# Altium integrated library TI_Logic_Specialty_Logic.IntLib: 2504 symbols (part 4 of 81)
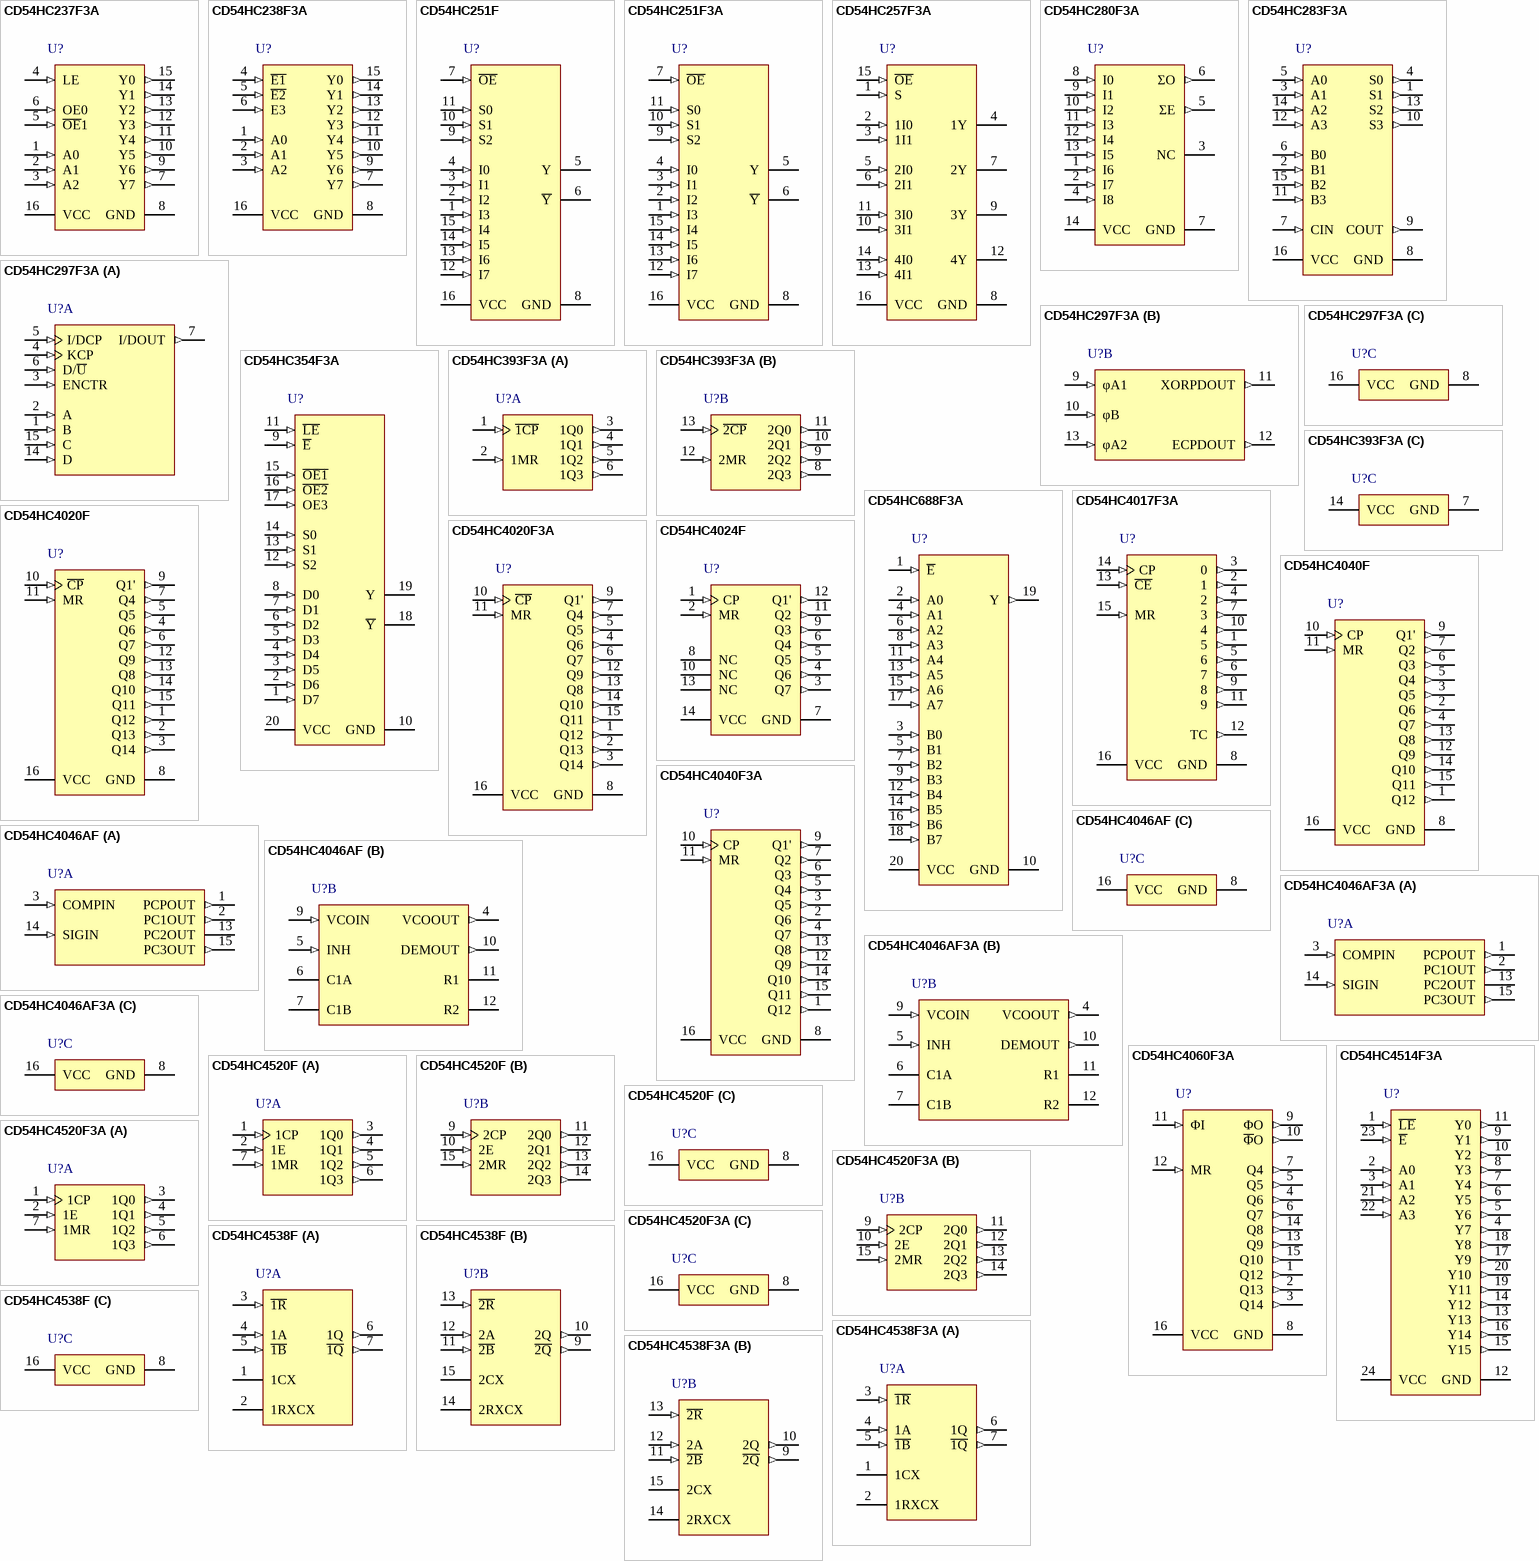
[diagram p107: symbols CD54HC237F3A to CD54HC4538F3A]

## CD54HC297F3A
designator U?
High Speed CMOS Logic Digital Phase-Locked-Loop, J0016A, TUBE; Generic Part Number: CD54HC297; Manufacturer: Texas Instruments; PartNumber: CD54HC297F3A; VCC(Min)(V): 2; VCC(Max)(V): 6; ICC @ Nom Voltage(Max)(mA): 0.08; Rating: Military; Technology Family: HC; Output Drive (IOL/IOH)(Max)(mA): 5.2/-7.8; tpd @ Nom Voltage(Max)(ns): 43; DatasheetVersion: SCHS177B; PackageReference: J0016A; Output Type: CMOS; Input Type: CMOS; Operating Temperature Range(C): -55 to 125; ComponentLink1Description: Manufacturer URL; ComponentLink1URL: http://www.ti.com/; ComponentLink2Description: Datasheet; ComponentLink2URL: http://www.ti.com/lit/ds/symlink/cd54hc297.pdf
footprint J0016A (DIP, 16-Leads, Body 21.35x7.2mm, Pitch 2.54mm)
part A pins: 1 B (in), 2 A (in), 3 ENCTR (in), 4 KCP (in), 5 I/DCP (in), 6 D/~{U} (in), 7 I/DOUT (out), 14 D (in), 15 C (in)
part B pins: 9 φA1 (in), 10 φB (in), 11 XORPDOUT (out), 12 ECPDOUT (out), 13 φA2 (in)
part C pins: 8 GND (power), 16 VCC (power)

## CD54HC354F3A
designator U?
High Speed CMOS Logic 8-Input Multiplexer/Register with 3-State Outputs, J0020A, TUBE; Generic Part Number: CD54HC354; Manufacturer: Texas Instruments; PartNumber: CD54HC354F3A; Rating: Military; Technology Family: HC; Schmitt Trigger: No; DatasheetVersion: SCHS277D; PackageReference: J0020A; Operating Temperature Range(C): -55 to 125; ComponentLink1Description: Manufacturer URL; ComponentLink1URL: http://www.ti.com/; ComponentLink2Description: Datasheet; ComponentLink2URL: http://www.ti.com/lit/ds/symlink/cd54hc354.pdf; ComponentLink3Description: Package Specification; ComponentLink3URL: http://www.ti.com/lit/ml/mcer002d/mcer002d.pdf
footprint J0020A (DIP, 20-Leads, Body 26.9x7.2mm, Pitch 2.54mm)
pins: 1 D7 (in), 2 D6 (in), 3 D5 (in), 4 D4 (in), 5 D3 (in), 6 D2 (in), 7 D1 (in), 8 D0 (in), 9 ~{E} (in), 10 GND (power), 11 ~{LE} (in), 12 S2 (in), 13 S1 (in), 14 S0 (in), 15 ~{OE1} (in), 16 ~{OE2} (in), 17 OE3 (in), 18 ~{Y} (hiz), 19 Y (hiz), 20 VCC (power)

## CD54HC393F3A
designator U?
High Speed CMOS Logic Dual 4-Stage Binary Counter, J0014A, TUBE; Generic Part Number: CD54HC393; Manufacturer: Texas Instruments; PartNumber: CD54HC393F3A; VCC(Min)(V): 2; VCC(Max)(V): 6; Inputs: 1; ICC @ Nom Voltage(Max)(mA): 0.08; Bits(#): 4; F @ Nom Voltage(Max)(Mhz): 28; Rating: Military; Technology Family: HC; Output Drive (IOL/IOH)(Max)(mA): 5.2/-5.2; tpd @ Nom Voltage(Max)(ns): 60; DatasheetVersion: SCHS186E; PackageReference: J0014A; Function: Counter; Operating Temperature Range(C): -55 to 125; Type: Binary; ComponentLink1Description: Manufacturer URL; ComponentLink1URL: http://www.ti.com/; ComponentLink2Description: Datasheet; ComponentLink2URL: http://www.ti.com/lit/ds/symlink/cd54hc393.pdf; ComponentLink3Description: Package Specification; ComponentLink3URL: http://www.ti.com/lit/ml/mcer002d/mcer002d.pdf
footprint J0014A (DIP, 14-Leads, Body 19.95x7.2mm, Pitch 2.54mm)
part A pins: 1 ~{1CP} (in), 2 1MR (in), 3 1Q0 (out), 4 1Q1 (out), 5 1Q2 (out), 6 1Q3 (out)
part B pins: 8 2Q3 (out), 9 2Q2 (out), 10 2Q1 (out), 11 2Q0 (out), 12 2MR (in), 13 ~{2CP} (in)
part C pins: 7 GND (power), 14 VCC (power)

## CD54HC688F3A
designator U?
8-Bit Identity/Magnitude Comparators (P=Q) with Enable, J0020A, TUBE; Generic Part Number: CD54HC688; Manufacturer: Texas Instruments; PartNumber: CD54HC688F3A; VCC(Min)(V): 2; VCC(Max)(V): 6; Output Type: CMOS; ICC @ Nom Voltage(Max)(mA): 0.08; Bits(#): 8; Rating: Military; Technology Family: HC; Output Drive (IOL/IOH)(Max)(mA): 5.2/-5.2; tpd @ Nom Voltage(Max)(ns): 36; DatasheetVersion: SCHS196C; PackageReference: J0020A; Input Type: CMOS; Operating Temperature Range(C): -55 to 125; ComponentLink1Description: Manufacturer URL; ComponentLink1URL: http://www.ti.com/; ComponentLink2Description: Datasheet; ComponentLink2URL: http://www.ti.com/lit/ds/symlink/cd54hc688.pdf
footprint J0020A (DIP, 20-Leads, Body 26.9x7.2mm, Pitch 2.54mm)
pins: 1 ~{E} (in), 2 A0 (in), 3 B0 (in), 4 A1 (in), 5 B1 (in), 6 A2 (in), 7 B2 (in), 8 A3 (in), 9 B3 (in), 10 GND (power), 11 A4 (in), 12 B4 (in), 13 A5 (in), 14 B5 (in), 15 A6 (in), 16 B6 (in), 17 A7 (in), 18 B7 (in), 19 Y (out), 20 VCC (power)

## CD54HC4017F3A
designator U?
High Speed CMOS Logic Decade Counter/Divider with 10 Decoded Outputs, J0016A, TUBE; Generic Part Number: CD54HC4017; Manufacturer: Texas Instruments; PartNumber: CD54HC4017F3A; VCC(Min)(V): 2; VCC(Max)(V): 6; Inputs: 1; ICC @ Nom Voltage(Max)(mA): 0.08; Bits(#): 10; F @ Nom Voltage(Max)(Mhz): 28; Rating: Military; Technology Family: HC; Output Drive (IOL/IOH)(Max)(mA): 5.2/-5.2; tpd @ Nom Voltage(Max)(ns): 54; DatasheetVersion: SGDS011; PackageReference: J0016A; Function: Counter; Operating Temperature Range(C): -55 to 125; Type: Decade; ComponentLink1Description: Manufacturer URL; ComponentLink1URL: http://www.ti.com/; ComponentLink2Description: Datasheet; ComponentLink2URL: http://www.ti.com/lit/ds/symlink/cd54hc4017.pdf; ComponentLink3Description: Package Specification; ComponentLink3URL: http://www.ti.com/lit/ml/mcer002d/mcer002d.pdf
footprint J0016A (DIP, 16-Leads, Body 21.35x7.2mm, Pitch 2.54mm)
pins: 1 5 (out), 2 1 (out), 3 0 (out), 4 2 (out), 5 6 (out), 6 7 (out), 7 3 (out), 8 GND (power), 9 8 (out), 10 4 (out), 11 9 (out), 12 TC (out), 13 ~{CE} (in), 14 CP (in), 15 MR (in), 16 VCC (power)

## CD54HC4020F
designator U?
High Speed CMOS Logic 14-Stage Binary Counter, J0016A, TUBE; Generic Part Number: CD54HC4020; Manufacturer: Texas Instruments; PartNumber: CD54HC4020F; VCC(Min)(V): 2; VCC(Max)(V): 6; Inputs: 1; ICC @ Nom Voltage(Max)(mA): 0.08; Bits(#): 14; F @ Nom Voltage(Max)(Mhz): 28; Rating: Military; Technology Family: HC; Output Drive (IOL/IOH)(Max)(mA): 5.2/-5.2; tpd @ Nom Voltage(Max)(ns): 30; DatasheetVersion: SCHS201C; PackageReference: J0016A; Function: Counter; Operating Temperature Range(C): -55 to 125; Type: Binary; ComponentLink1Description: Manufacturer URL; ComponentLink1URL: http://www.ti.com/; ComponentLink2Description: Datasheet; ComponentLink2URL: http://www.ti.com/lit/ds/symlink/cd54hc4020.pdf; ComponentLink3Description: Package Specification; ComponentLink3URL: http://www.ti.com/lit/ml/mcer002d/mcer002d.pdf
footprint J0016A (DIP, 16-Leads, Body 21.35x7.2mm, Pitch 2.54mm)
pins: 1 Q12 (out), 2 Q13 (out), 3 Q14 (out), 4 Q6 (out), 5 Q5 (out), 6 Q7 (out), 7 Q4 (out), 8 GND (power), 9 Q1' (out), 10 ~{CP} (in), 11 MR (in), 12 Q9 (out), 13 Q8 (out), 14 Q10 (out), 15 Q11 (out), 16 VCC (power)

## CD54HC4020F3A
designator U?
High Speed CMOS Logic 14-Stage Binary Counter, J0016A, TUBE; Generic Part Number: CD54HC4020; Manufacturer: Texas Instruments; PartNumber: CD54HC4020F3A; VCC(Min)(V): 2; VCC(Max)(V): 6; Inputs: 1; ICC @ Nom Voltage(Max)(mA): 0.08; Bits(#): 14; F @ Nom Voltage(Max)(Mhz): 28; Rating: Military; Technology Family: HC; Output Drive (IOL/IOH)(Max)(mA): 5.2/-5.2; tpd @ Nom Voltage(Max)(ns): 30; DatasheetVersion: SCHS201C; PackageReference: J0016A; Function: Counter; Operating Temperature Range(C): -55 to 125; Type: Binary; ComponentLink1Description: Manufacturer URL; ComponentLink1URL: http://www.ti.com/; ComponentLink2Description: Datasheet; ComponentLink2URL: http://www.ti.com/lit/ds/symlink/cd54hc4020.pdf; ComponentLink3Description: Package Specification; ComponentLink3URL: http://www.ti.com/lit/ml/mcer002d/mcer002d.pdf
footprint J0016A (DIP, 16-Leads, Body 21.35x7.2mm, Pitch 2.54mm)
pins: 1 Q12 (out), 2 Q13 (out), 3 Q14 (out), 4 Q6 (out), 5 Q5 (out), 6 Q7 (out), 7 Q4 (out), 8 GND (power), 9 Q1' (out), 10 ~{CP} (in), 11 MR (in), 12 Q9 (out), 13 Q8 (out), 14 Q10 (out), 15 Q11 (out), 16 VCC (power)

## CD54HC4024F
designator U?
High Speed CMOS Logic 7-Stage Binary Ripple Counter, J0014A, TUBE; Generic Part Number: CD54HC4024; Manufacturer: Texas Instruments; PartNumber: CD54HC4024F; VCC(Min)(V): 2; VCC(Max)(V): 6; Inputs: 1; ICC @ Nom Voltage(Max)(mA): 0.08; Bits(#): 7; F @ Nom Voltage(Max)(Mhz): 28; Rating: Military; Technology Family: HC; Output Drive (IOL/IOH)(Max)(mA): 5.2/-5.2; tpd @ Nom Voltage(Max)(ns): 30; DatasheetVersion: SCHS202C; PackageReference: J0014A; Function: Counter; Operating Temperature Range(C): -55 to 125; Type: Binary; ComponentLink1Description: Manufacturer URL; ComponentLink1URL: http://www.ti.com/; ComponentLink2Description: Datasheet; ComponentLink2URL: http://www.ti.com/lit/ds/symlink/cd54hc4024.pdf; ComponentLink3Description: Package Specification; ComponentLink3URL: http://www.ti.com/lit/ml/mcer002d/mcer002d.pdf
footprint J0014A (DIP, 14-Leads, Body 19.95x7.2mm, Pitch 2.54mm)
pins: 1 CP (in), 2 MR (in), 3 Q7 (out), 4 Q6 (out), 5 Q5 (out), 6 Q4 (out), 7 GND (power), 8 NC, 9 Q3 (out), 10 NC, 11 Q2 (out), 12 Q1' (out), 13 NC, 14 VCC (power)

## CD54HC4040F
designator U?
High Speed CMOS Logic 12-Stage Binary Counter, J0016A, TUBE; Generic Part Number: CD54HC4040; Manufacturer: Texas Instruments; PartNumber: CD54HC4040F; VCC(Min)(V): 2; VCC(Max)(V): 6; Inputs: 1; ICC @ Nom Voltage(Max)(mA): 0.08; Bits(#): 12; F @ Nom Voltage(Max)(Mhz): 28; Rating: Military; Technology Family: HC; Output Drive (IOL/IOH)(Max)(mA): 5.2/-5.2; tpd @ Nom Voltage(Max)(ns): 30; DatasheetVersion: SCHS203D; PackageReference: J0016A; Function: Counter; Operating Temperature Range(C): -55 to 125; Type: Binary; ComponentLink1Description: Manufacturer URL; ComponentLink1URL: http://www.ti.com/; ComponentLink2Description: Datasheet; ComponentLink2URL: http://www.ti.com/lit/ds/symlink/cd54hc4040.pdf; ComponentLink3Description: Package Specification; ComponentLink3URL: http://www.ti.com/lit/ml/mcer002d/mcer002d.pdf
footprint J0016A (DIP, 16-Leads, Body 21.35x7.2mm, Pitch 2.54mm)
pins: 1 Q12 (out), 2 Q6 (out), 3 Q5 (out), 4 Q7 (out), 5 Q4 (out), 6 Q3 (out), 7 Q2 (out), 8 GND (power), 9 Q1' (out), 10 CP (in), 11 MR (in), 12 Q9 (out), 13 Q8 (out), 14 Q10 (out), 15 Q11 (out), 16 VCC (power)

## CD54HC4040F3A
designator U?
High Speed CMOS Logic 12-Stage Binary Counter, J0016A, TUBE; Generic Part Number: CD54HC4040; Manufacturer: Texas Instruments; PartNumber: CD54HC4040F3A; VCC(Min)(V): 2; VCC(Max)(V): 6; Inputs: 1; ICC @ Nom Voltage(Max)(mA): 0.08; Bits(#): 12; F @ Nom Voltage(Max)(Mhz): 28; Rating: Military; Technology Family: HC; Output Drive (IOL/IOH)(Max)(mA): 5.2/-5.2; tpd @ Nom Voltage(Max)(ns): 30; DatasheetVersion: SCHS203D; PackageReference: J0016A; Function: Counter; Operating Temperature Range(C): -55 to 125; Type: Binary; ComponentLink1Description: Manufacturer URL; ComponentLink1URL: http://www.ti.com/; ComponentLink2Description: Datasheet; ComponentLink2URL: http://www.ti.com/lit/ds/symlink/cd54hc4040.pdf; ComponentLink3Description: Package Specification; ComponentLink3URL: http://www.ti.com/lit/ml/mcer002d/mcer002d.pdf
footprint J0016A (DIP, 16-Leads, Body 21.35x7.2mm, Pitch 2.54mm)
pins: 1 Q12 (out), 2 Q6 (out), 3 Q5 (out), 4 Q7 (out), 5 Q4 (out), 6 Q3 (out), 7 Q2 (out), 8 GND (power), 9 Q1' (out), 10 CP (in), 11 MR (in), 12 Q9 (out), 13 Q8 (out), 14 Q10 (out), 15 Q11 (out), 16 VCC (power)

## CD54HC4046AF
designator U?
High Speed CMOS Logic Phase-Locked-Loop with VCO, J0016A, TUBE; Generic Part Number: CD54HC4046A; Manufacturer: Texas Instruments; PartNumber: CD54HC4046AF; VCC(Min)(V): 2; VCC(Max)(V): 6; ICC @ Nom Voltage(Max)(mA): 0.08; Rating: Military; Technology Family: HC; Output Drive (IOL/IOH)(Max)(mA): 5.2/-5.2; tpd @ Nom Voltage(Max)(ns): 64; DatasheetVersion: SCHS204J; PackageReference: J0016A; Output Type: CMOS; Input Type: CMOS; Operating Temperature Range(C): -55 to 125; ComponentLink1Description: Manufacturer URL; ComponentLink1URL: http://www.ti.com/; ComponentLink2Description: Datasheet; ComponentLink2URL: http://www.ti.com/lit/ds/symlink/cd54hc4046a.pdf
footprint J0016A (DIP, 16-Leads, Body 21.35x7.2mm, Pitch 2.54mm)
part A pins: 1 PCPOUT (out) "Phase comparator pulse output", 2 PC1OUT (out) "Phase comparator 1 output", 3 COMPIN (in) "Comparator input", 13 PC2OUT (hiz) "Phase comparator 2 output", 14 SIGIN (in) "Signal input", 15 PC3OUT (out) "Phase comparator 3 output"
part B pins: 4 VCOOUT (out) "VCO output", 5 INH (in) "Inhibit input", 6 C1A "Capacitor C1 connection A", 7 C1B "Capacitor C1 connection B", 9 VCOIN (in) "VCO input", 10 DEMOUT (out) "Demodulator output", 11 R1 "Resistor R1 connection", 12 R2 "Resistor R2 connection"
part C pins: 8 GND (power) "Ground (0 V)", 16 VCC (power) "Positive supply voltage"

## CD54HC4046AF3A
designator U?
High Speed CMOS Logic Phase-Locked-Loop with VCO, J0016A, TUBE; Generic Part Number: CD54HC4046A; Manufacturer: Texas Instruments; PartNumber: CD54HC4046AF3A; VCC(Min)(V): 2; VCC(Max)(V): 6; ICC @ Nom Voltage(Max)(mA): 0.08; Rating: Military; Technology Family: HC; Output Drive (IOL/IOH)(Max)(mA): 5.2/-5.2; tpd @ Nom Voltage(Max)(ns): 64; DatasheetVersion: SCHS204J; PackageReference: J0016A; Output Type: CMOS; Input Type: CMOS; Operating Temperature Range(C): -55 to 125; ComponentLink1Description: Manufacturer URL; ComponentLink1URL: http://www.ti.com/; ComponentLink2Description: Datasheet; ComponentLink2URL: http://www.ti.com/lit/ds/symlink/cd54hc4046a.pdf
footprint J0016A (DIP, 16-Leads, Body 21.35x7.2mm, Pitch 2.54mm)
part A pins: 1 PCPOUT (out) "Phase comparator pulse output", 2 PC1OUT (out) "Phase comparator 1 output", 3 COMPIN (in) "Comparator input", 13 PC2OUT (hiz) "Phase comparator 2 output", 14 SIGIN (in) "Signal input", 15 PC3OUT (out) "Phase comparator 3 output"
part B pins: 4 VCOOUT (out) "VCO output", 5 INH (in) "Inhibit input", 6 C1A "Capacitor C1 connection A", 7 C1B "Capacitor C1 connection B", 9 VCOIN (in) "VCO input", 10 DEMOUT (out) "Demodulator output", 11 R1 "Resistor R1 connection", 12 R2 "Resistor R2 connection"
part C pins: 8 GND (power) "Ground (0 V)", 16 VCC (power) "Positive supply voltage"

## CD54HC4060F3A
designator U?
High Speed CMOS Logic 14-Stage Binary Counter with Oscillator, J0016A, TUBE; Generic Part Number: CD54HC4060; Manufacturer: Texas Instruments; PartNumber: CD54HC4060F3A; VCC(Min)(V): 2; VCC(Max)(V): 6; Inputs: 1; ICC @ Nom Voltage(Max)(mA): 0.08; Bits(#): 14; F @ Nom Voltage(Max)(Mhz): 28; Rating: Military; Technology Family: HC; Output Drive (IOL/IOH)(Max)(mA): 5.2/-5.2; tpd @ Nom Voltage(Max)(ns): 64; DatasheetVersion: SCHS207G; PackageReference: J0016A; Function: Counter; Operating Temperature Range(C): -55 to 125; Type: Binary; ComponentLink1Description: Manufacturer URL; ComponentLink1URL: http://www.ti.com/; ComponentLink2Description: Datasheet; ComponentLink2URL: http://www.ti.com/lit/ds/symlink/cd54hc4060.pdf; ComponentLink3Description: Package Specification; ComponentLink3URL: http://www.ti.com/lit/ml/mcer002d/mcer002d.pdf
footprint J0016A (DIP, 16-Leads, Body 21.35x7.2mm, Pitch 2.54mm)
pins: 1 Q12 (out), 2 Q13 (out), 3 Q14 (out), 4 Q6 (out), 5 Q5 (out), 6 Q7 (out), 7 Q4 (out), 8 GND (power), 9 ΦO (out), 10 ~{Φ}O (out), 11 ΦI (in), 12 MR (in), 13 Q9 (out), 14 Q8 (out), 15 Q10 (out), 16 VCC (power)

## CD54HC4514F3A
designator U?
High Speed CMOS Logic 4-to-16 Line Decoder/Demultiplexer with Input Latches, J0024A, TUBE; Generic Part Number: CD54HC4514; Manufacturer: Texas Instruments; PartNumber: CD54HC4514F3A; Rating: Military; Technology Family: HC; Schmitt Trigger: No; DatasheetVersion: SCHS280C; PackageReference: J0024A; Operating Temperature Range(C): -55 to 125; ComponentLink1Description: Manufacturer URL; ComponentLink1URL: http://www.ti.com/; ComponentLink2Description: Datasheet; ComponentLink2URL: http://www.ti.com/lit/ds/symlink/cd54hc4514.pdf; ComponentLink3Description: Package Specification; ComponentLink3URL: http://www.ti.com/lit/ml/mcer002d/mcer002d.pdf
footprint J0024A (DIP, 24-Leads, Body 32.15x14.85mm, Pitch 2.54mm)
pins: 1 ~{LE} (in), 2 A0 (in), 3 A1 (in), 4 Y7 (out), 5 Y6 (out), 6 Y5 (out), 7 Y4 (out), 8 Y3 (out), 9 Y1 (out), 10 Y2 (out), 11 Y0 (out), 12 GND (power), 13 Y13 (out), 14 Y12 (out), 15 Y15 (out), 16 Y14 (out), 17 Y9 (out), 18 Y8 (out), 19 Y11 (out), 20 Y10 (out), 21 A2 (in), 22 A3 (in), 23 ~{E} (in), 24 VCC (power)

## CD54HC4520F
designator U?
High Speed CMOS Logic Dual Binary Up-Counter, J0016A, TUBE; Generic Part Number: CD54HC4520; Manufacturer: Texas Instruments; PartNumber: CD54HC4520F; VCC(Min)(V): 2; VCC(Max)(V): 6; Inputs: 1; ICC @ Nom Voltage(Max)(mA): 0.08; Bits(#): 4; F @ Nom Voltage(Max)(Mhz): 28; Rating: Military; Technology Family: HC; Output Drive (IOL/IOH)(Max)(mA): 5.2/-5.2; tpd @ Nom Voltage(Max)(ns): 51; DatasheetVersion: SCHS216D; PackageReference: J0016A; Function: Counter; Operating Temperature Range(C): -55 to 125; Type: Binary; ComponentLink1Description: Manufacturer URL; ComponentLink1URL: http://www.ti.com/; ComponentLink2Description: Datasheet; ComponentLink2URL: http://www.ti.com/lit/ds/symlink/cd54hc4520.pdf; ComponentLink3Description: Package Specification; ComponentLink3URL: http://www.ti.com/lit/ml/mcer002d/mcer002d.pdf
footprint J0016A (DIP, 16-Leads, Body 21.35x7.2mm, Pitch 2.54mm)
part A pins: 1 1CP (in), 2 1E (in), 3 1Q0 (out), 4 1Q1 (out), 5 1Q2 (out), 6 1Q3 (out), 7 1MR (in)
part B pins: 9 2CP (in), 10 2E (in), 11 2Q0 (out), 12 2Q1 (out), 13 2Q2 (out), 14 2Q3 (out), 15 2MR (in)
part C pins: 8 GND (power), 16 VCC (power)

## CD54HC4520F3A
designator U?
High Speed CMOS Logic Dual Binary Up-Counter, J0016A, TUBE; Generic Part Number: CD54HC4520; Manufacturer: Texas Instruments; PartNumber: CD54HC4520F3A; VCC(Min)(V): 2; VCC(Max)(V): 6; Inputs: 1; ICC @ Nom Voltage(Max)(mA): 0.08; Bits(#): 4; F @ Nom Voltage(Max)(Mhz): 28; Rating: Military; Technology Family: HC; Output Drive (IOL/IOH)(Max)(mA): 5.2/-5.2; tpd @ Nom Voltage(Max)(ns): 51; DatasheetVersion: SCHS216D; PackageReference: J0016A; Function: Counter; Operating Temperature Range(C): -55 to 125; Type: Binary; ComponentLink1Description: Manufacturer URL; ComponentLink1URL: http://www.ti.com/; ComponentLink2Description: Datasheet; ComponentLink2URL: http://www.ti.com/lit/ds/symlink/cd54hc4520.pdf; ComponentLink3Description: Package Specification; ComponentLink3URL: http://www.ti.com/lit/ml/mcer002d/mcer002d.pdf
footprint J0016A (DIP, 16-Leads, Body 21.35x7.2mm, Pitch 2.54mm)
part A pins: 1 1CP (in), 2 1E (in), 3 1Q0 (out), 4 1Q1 (out), 5 1Q2 (out), 6 1Q3 (out), 7 1MR (in)
part B pins: 9 2CP (in), 10 2E (in), 11 2Q0 (out), 12 2Q1 (out), 13 2Q2 (out), 14 2Q3 (out), 15 2MR (in)
part C pins: 8 GND (power), 16 VCC (power)

## CD54HC4538F
designator U?
High Speed CMOS Logic Dual Retriggerable Precision Monostable Multivibrator, J0016A, TUBE; Generic Part Number: CD54HC4538; Manufacturer: Texas Instruments; PartNumber: CD54HC4538F; Rating: Military; Technology Family: HC; DatasheetVersion: SCHS123E; PackageReference: J0016A; Operating Temperature Range(C): -55 to 125; ComponentLink1Description: Manufacturer URL; ComponentLink1URL: http://www.ti.com/; ComponentLink2Description: Datasheet; ComponentLink2URL: http://www.ti.com/lit/ds/symlink/cd54hc4538.pdf; ComponentLink3Description: Package Specification; ComponentLink3URL: http://www.ti.com/lit/ml/mcer002d/mcer002d.pdf
footprint J0016A (DIP, 16-Leads, Body 21.35x7.2mm, Pitch 2.54mm)
part A pins: 1 1CX, 2 1RXCX, 3 ~{1R} (in), 4 1A (in), 5 ~{1B} (in), 6 1Q (out), 7 ~{1Q} (out)
part B pins: 9 ~{2Q} (out), 10 2Q (out), 11 ~{2B} (in), 12 2A (in), 13 ~{2R} (in), 14 2RXCX, 15 2CX
part C pins: 8 GND (power), 16 VCC (power)

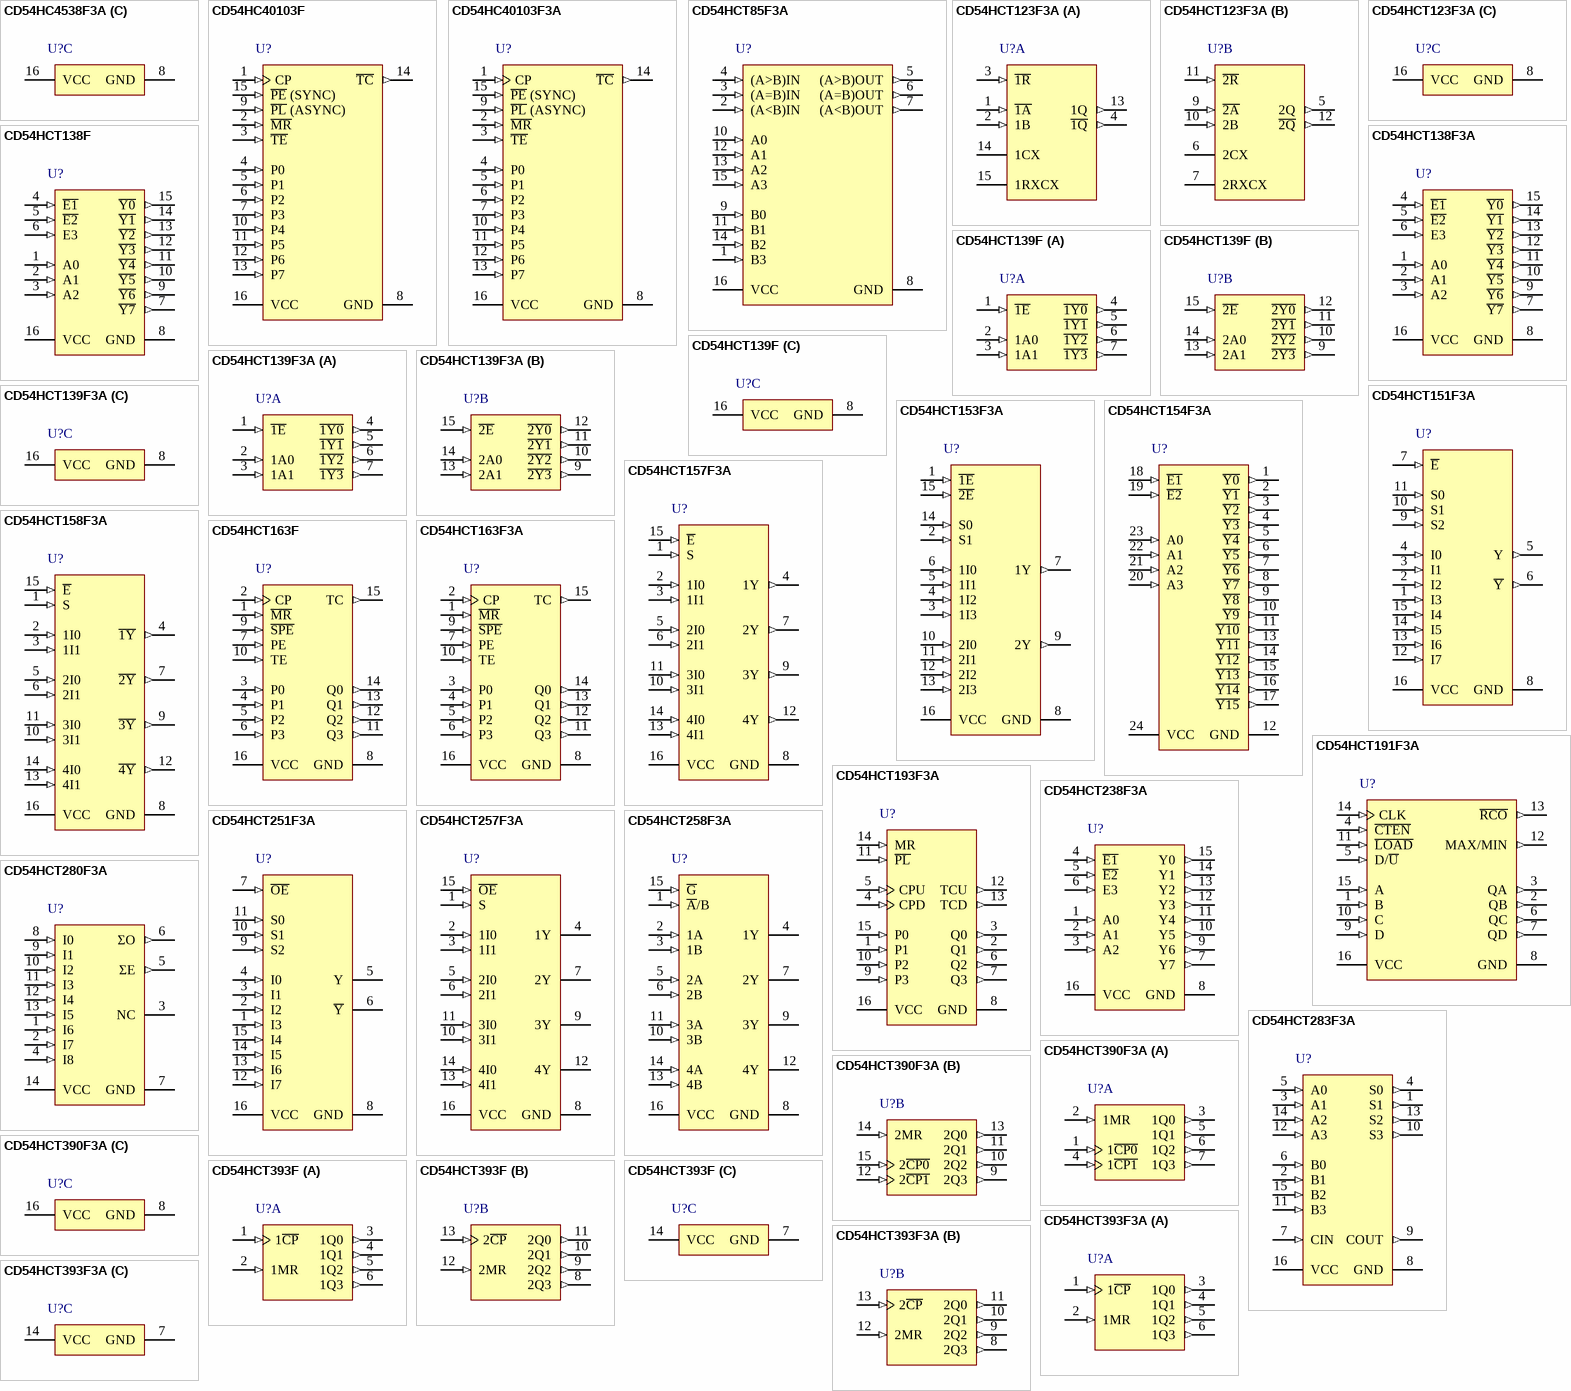
[diagram p5: symbols CD54HC4538F3A to CD54HCT393F3A]

## CD54HC4538F3A
designator U?
High Speed CMOS Logic Dual Retriggerable Precision Monostable Multivibrator, J0016A, TUBE; Generic Part Number: CD54HC4538; Manufacturer: Texas Instruments; PartNumber: CD54HC4538F3A; Rating: Military; Technology Family: HC; DatasheetVersion: SCHS123E; PackageReference: J0016A; Operating Temperature Range(C): -55 to 125; ComponentLink1Description: Manufacturer URL; ComponentLink1URL: http://www.ti.com/; ComponentLink2Description: Datasheet; ComponentLink2URL: http://www.ti.com/lit/ds/symlink/cd54hc4538.pdf; ComponentLink3Description: Package Specification; ComponentLink3URL: http://www.ti.com/lit/ml/mcer002d/mcer002d.pdf
footprint J0016A (DIP, 16-Leads, Body 21.35x7.2mm, Pitch 2.54mm)
part A pins: 1 1CX, 2 1RXCX, 3 ~{1R} (in), 4 1A (in), 5 ~{1B} (in), 6 1Q (out), 7 ~{1Q} (out)
part B pins: 9 ~{2Q} (out), 10 2Q (out), 11 ~{2B} (in), 12 2A (in), 13 ~{2R} (in), 14 2RXCX, 15 2CX
part C pins: 8 GND (power), 16 VCC (power)

## CD54HC40103F
designator U?
High Speed CMOS Logic 8-Stage Synchronous Down Counters, J0016A, TUBE; Generic Part Number: CD54HC40103; Manufacturer: Texas Instruments; PartNumber: CD54HC40103F; VCC(Min)(V): 2; VCC(Max)(V): 6; Inputs: 1; ICC @ Nom Voltage(Max)(mA): 0.08; Bits(#): 8; F @ Nom Voltage(Max)(Mhz): 28; Rating: Military; Technology Family: HC; Output Drive (IOL/IOH)(Max)(mA): 5.2/-5.2; tpd @ Nom Voltage(Max)(ns): 64; DatasheetVersion: SCHS221D; PackageReference: J0016A; Function: Counter; Operating Temperature Range(C): -55 to 125; Type: Binary; ComponentLink1Description: Manufacturer URL; ComponentLink1URL: http://www.ti.com/; ComponentLink2Description: Datasheet; ComponentLink2URL: http://www.ti.com/lit/ds/symlink/cd54hc40103.pdf; ComponentLink3Description: Package Specification; ComponentLink3URL: http://www.ti.com/lit/ml/mcer002d/mcer002d.pdf
footprint J0016A (DIP, 16-Leads, Body 21.35x7.2mm, Pitch 2.54mm)
pins: 1 CP (in), 2 ~{MR} (in), 3 ~{TE} (in), 4 P0 (in), 5 P1 (in), 6 P2 (in), 7 P3 (in), 8 GND (power), 9 ~{PL} (ASYNC) (in), 10 P4 (in), 11 P5 (in), 12 P6 (in), 13 P7 (in), 14 ~{TC} (out), 15 ~{PE} (SYNC) (in), 16 VCC (power)

## CD54HC40103F3A
designator U?
High Speed CMOS Logic 8-Stage Synchronous Down Counters, J0016A, TUBE; Generic Part Number: CD54HC40103; Manufacturer: Texas Instruments; PartNumber: CD54HC40103F3A; VCC(Min)(V): 2; VCC(Max)(V): 6; Inputs: 1; ICC @ Nom Voltage(Max)(mA): 0.08; Bits(#): 8; F @ Nom Voltage(Max)(Mhz): 28; Rating: Military; Technology Family: HC; Output Drive (IOL/IOH)(Max)(mA): 5.2/-5.2; tpd @ Nom Voltage(Max)(ns): 64; DatasheetVersion: SCHS221D; PackageReference: J0016A; Function: Counter; Operating Temperature Range(C): -55 to 125; Type: Binary; ComponentLink1Description: Manufacturer URL; ComponentLink1URL: http://www.ti.com/; ComponentLink2Description: Datasheet; ComponentLink2URL: http://www.ti.com/lit/ds/symlink/cd54hc40103.pdf; ComponentLink3Description: Package Specification; ComponentLink3URL: http://www.ti.com/lit/ml/mcer002d/mcer002d.pdf
footprint J0016A (DIP, 16-Leads, Body 21.35x7.2mm, Pitch 2.54mm)
pins: 1 CP (in), 2 ~{MR} (in), 3 ~{TE} (in), 4 P0 (in), 5 P1 (in), 6 P2 (in), 7 P3 (in), 8 GND (power), 9 ~{PL} (ASYNC) (in), 10 P4 (in), 11 P5 (in), 12 P6 (in), 13 P7 (in), 14 ~{TC} (out), 15 ~{PE} (SYNC) (in), 16 VCC (power)

## CD54HCT85F3A
designator U?
4-Bit Magnitude Comparator, J0016A, TUBE; Generic Part Number: CD54HCT85; Manufacturer: Texas Instruments; PartNumber: CD54HCT85F3A; VCC(Min)(V): 4.5; VCC(Max)(V): 5.5; Output Type: CMOS; ICC @ Nom Voltage(Max)(mA): 0.08; Input Type: TTL; Bits(#): 4; Rating: Military; Technology Family: HCT; Output Drive (IOL/IOH)(Max)(mA): 4/-4; tpd @ Nom Voltage(Max)(ns): 50; DatasheetVersion: SCHS136E; PackageReference: J0016A; Operating Temperature Range(C): -55 to 125; ComponentLink1Description: Manufacturer URL; ComponentLink1URL: http://www.ti.com/; ComponentLink2Description: Datasheet; ComponentLink2URL: http://www.ti.com/lit/ds/symlink/cd54hct85.pdf
footprint J0016A (DIP, 16-Leads, Body 21.35x7.2mm, Pitch 2.54mm)
pins: 1 B3 (in), 2 (A<B)IN (in), 3 (A=B)IN (in), 4 (A>B)IN (in), 5 (A>B)OUT (out), 6 (A=B)OUT (out), 7 (A<B)OUT (out), 8 GND (power), 9 B0 (in), 10 A0 (in), 11 B1 (in), 12 A1 (in), 13 A2 (in), 14 B2 (in), 15 A3 (in), 16 VCC (power)

## CD54HCT123F3A
designator U?
High Speed CMOS Logic Dual Retriggerable Monostable Multivibrators with Resets, J0016A, TUBE; Generic Part Number: CD54HCT123; Manufacturer: Texas Instruments; PartNumber: CD54HCT123F3A; Rating: Military; Technology Family: HCT; DatasheetVersion: SCHS142F; PackageReference: J0016A; Operating Temperature Range(C): -55 to 125; ComponentLink1Description: Manufacturer URL; ComponentLink1URL: http://www.ti.com/; ComponentLink2Description: Datasheet; ComponentLink2URL: http://www.ti.com/lit/ds/symlink/cd54hct123.pdf; ComponentLink3Description: Package Specification; ComponentLink3URL: http://www.ti.com/lit/ml/mcer002d/mcer002d.pdf
footprint J0016A (DIP, 16-Leads, Body 21.35x7.2mm, Pitch 2.54mm)
part A pins: 1 ~{1A} (in), 2 1B (in), 3 ~{1R} (in), 4 ~{1Q} (out), 13 1Q (out), 14 1CX, 15 1RXCX
part B pins: 5 2Q (out), 6 2CX, 7 2RXCX, 9 ~{2A} (in), 10 2B (in), 11 ~{2R} (in), 12 ~{2Q} (out)
part C pins: 8 GND (power), 16 VCC (power)

## CD54HCT138F
designator U?
High Speed CMOS Logic Inverting and Non-Inverting 3-to-8 Line Decoder Demultiplexer, J0016A, TUBE; Generic Part Number: CD54HCT138; Manufacturer: Texas Instruments; PartNumber: CD54HCT138F; Rating: Military; Technology Family: HCT; Schmitt Trigger: No; DatasheetVersion: SCHS147I; PackageReference: J0016A; Operating Temperature Range(C): -55 to 125; ComponentLink1Description: Manufacturer URL; ComponentLink1URL: http://www.ti.com/; ComponentLink2Description: Datasheet; ComponentLink2URL: http://www.ti.com/lit/ds/symlink/cd54hct138.pdf; ComponentLink3Description: Package Specification; ComponentLink3URL: http://www.ti.com/lit/ml/mcer002d/mcer002d.pdf
footprint J0016A (DIP, 16-Leads, Body 21.35x7.2mm, Pitch 2.54mm)
pins: 1 A0 (in), 2 A1 (in), 3 A2 (in), 4 ~{E1} (in), 5 ~{E2} (in), 6 E3 (in), 7 ~{Y7} (out), 8 GND (power), 9 ~{Y6} (out), 10 ~{Y5} (out), 11 ~{Y4} (out), 12 ~{Y3} (out), 13 ~{Y2} (out), 14 ~{Y1} (out), 15 ~{Y0} (out), 16 VCC (power)

## CD54HCT138F3A
designator U?
High Speed CMOS Logic Inverting and Non-Inverting 3-to-8 Line Decoder Demultiplexer, J0016A, TUBE; Generic Part Number: CD54HCT138; Manufacturer: Texas Instruments; PartNumber: CD54HCT138F3A; Rating: Military; Technology Family: HCT; Schmitt Trigger: No; DatasheetVersion: SCHS147I; PackageReference: J0016A; Operating Temperature Range(C): -55 to 125; ComponentLink1Description: Manufacturer URL; ComponentLink1URL: http://www.ti.com/; ComponentLink2Description: Datasheet; ComponentLink2URL: http://www.ti.com/lit/ds/symlink/cd54hct138.pdf; ComponentLink3Description: Package Specification; ComponentLink3URL: http://www.ti.com/lit/ml/mcer002d/mcer002d.pdf
footprint J0016A (DIP, 16-Leads, Body 21.35x7.2mm, Pitch 2.54mm)
pins: 1 A0 (in), 2 A1 (in), 3 A2 (in), 4 ~{E1} (in), 5 ~{E2} (in), 6 E3 (in), 7 ~{Y7} (out), 8 GND (power), 9 ~{Y6} (out), 10 ~{Y5} (out), 11 ~{Y4} (out), 12 ~{Y3} (out), 13 ~{Y2} (out), 14 ~{Y1} (out), 15 ~{Y0} (out), 16 VCC (power)

## CD54HCT139F
designator U?
High Speed CMOS Logic Dual 2-to-4 Line Decoder/Demultiplexers, J0016A, TUBE; Generic Part Number: CD54HCT139; Manufacturer: Texas Instruments; PartNumber: CD54HCT139F; Rating: Military; Technology Family: HCT; Schmitt Trigger: No; DatasheetVersion: SCHS148D; PackageReference: J0016A; Operating Temperature Range(C): -55 to 125; ComponentLink1Description: Manufacturer URL; ComponentLink1URL: http://www.ti.com/; ComponentLink2Description: Datasheet; ComponentLink2URL: http://www.ti.com/lit/ds/symlink/cd54hct139.pdf; ComponentLink3Description: Package Specification; ComponentLink3URL: http://www.ti.com/lit/ml/mcer002d/mcer002d.pdf
footprint J0016A (DIP, 16-Leads, Body 21.35x7.2mm, Pitch 2.54mm)
part A pins: 1 ~{1E} (in), 2 1A0 (in), 3 1A1 (in), 4 ~{1Y0} (out), 5 ~{1Y1} (out), 6 ~{1Y2} (out), 7 ~{1Y3} (out)
part B pins: 9 ~{2Y3} (out), 10 ~{2Y2} (out), 11 ~{2Y1} (out), 12 ~{2Y0} (out), 13 2A1 (in), 14 2A0 (in), 15 ~{2E} (in)
part C pins: 8 GND (power), 16 VCC (power)

## CD54HCT139F3A
designator U?
High Speed CMOS Logic Dual 2-to-4 Line Decoder/Demultiplexers, J0016A, TUBE; Generic Part Number: CD54HCT139; Manufacturer: Texas Instruments; PartNumber: CD54HCT139F3A; Rating: Military; Technology Family: HCT; Schmitt Trigger: No; DatasheetVersion: SCHS148D; PackageReference: J0016A; Operating Temperature Range(C): -55 to 125; ComponentLink1Description: Manufacturer URL; ComponentLink1URL: http://www.ti.com/; ComponentLink2Description: Datasheet; ComponentLink2URL: http://www.ti.com/lit/ds/symlink/cd54hct139.pdf; ComponentLink3Description: Package Specification; ComponentLink3URL: http://www.ti.com/lit/ml/mcer002d/mcer002d.pdf
footprint J0016A (DIP, 16-Leads, Body 21.35x7.2mm, Pitch 2.54mm)
part A pins: 1 ~{1E} (in), 2 1A0 (in), 3 1A1 (in), 4 ~{1Y0} (out), 5 ~{1Y1} (out), 6 ~{1Y2} (out), 7 ~{1Y3} (out)
part B pins: 9 ~{2Y3} (out), 10 ~{2Y2} (out), 11 ~{2Y1} (out), 12 ~{2Y0} (out), 13 2A1 (in), 14 2A0 (in), 15 ~{2E} (in)
part C pins: 8 GND (power), 16 VCC (power)

## CD54HCT151F3A
designator U?
High Speed CMOS Logic 8-Input Multiplexer, J0016A, TUBE; Generic Part Number: CD54HCT151; Manufacturer: Texas Instruments; PartNumber: CD54HCT151F3A; Rating: Military; Technology Family: HCT; Schmitt Trigger: No; DatasheetVersion: SCHS150C; PackageReference: J0016A; Operating Temperature Range(C): -55 to 125; ComponentLink1Description: Manufacturer URL; ComponentLink1URL: http://www.ti.com/; ComponentLink2Description: Datasheet; ComponentLink2URL: http://www.ti.com/lit/ds/symlink/cd54hct151.pdf; ComponentLink3Description: Package Specification; ComponentLink3URL: http://www.ti.com/lit/ml/mcer002d/mcer002d.pdf
footprint J0016A (DIP, 16-Leads, Body 21.35x7.2mm, Pitch 2.54mm)
pins: 1 I3 (in), 2 I2 (in), 3 I1 (in), 4 I0 (in), 5 Y (out), 6 ~{Y} (out), 7 ~{E} (in), 8 GND (power), 9 S2 (in), 10 S1 (in), 11 S0 (in), 12 I7 (in), 13 I6 (in), 14 I5 (in), 15 I4 (in), 16 VCC (power)

## CD54HCT153F3A
designator U?
High Speed CMOS Logic Dual 4-Input Multiplexers, J0016A, TUBE; Generic Part Number: CD54HCT153; Manufacturer: Texas Instruments; PartNumber: CD54HCT153F3A; Rating: Military; Technology Family: HCT; Schmitt Trigger: No; DatasheetVersion: SCHS151C; PackageReference: J0016A; Operating Temperature Range(C): -55 to 125; ComponentLink1Description: Manufacturer URL; ComponentLink1URL: http://www.ti.com/; ComponentLink2Description: Datasheet; ComponentLink2URL: http://www.ti.com/lit/ds/symlink/cd54hct153.pdf; ComponentLink3Description: Package Specification; ComponentLink3URL: http://www.ti.com/lit/ml/mcer002d/mcer002d.pdf
footprint J0016A (DIP, 16-Leads, Body 21.35x7.2mm, Pitch 2.54mm)
pins: 1 ~{1E} (in), 2 S1 (in), 3 1I3 (in), 4 1I2 (in), 5 1I1 (in), 6 1I0 (in), 7 1Y (out), 8 GND (power), 9 2Y (out), 10 2I0 (in), 11 2I1 (in), 12 2I2 (in), 13 2I3 (in), 14 S0 (in), 15 ~{2E} (in), 16 VCC (power)

## CD54HCT154F3A
designator U?
High Speed CMOS Logic 4-to-16 Line Decoder/Demultiplexer, J0024A, TUBE; Generic Part Number: CD54HCT154; Manufacturer: Texas Instruments; PartNumber: CD54HCT154F3A; Rating: Military; Technology Family: HCT; Schmitt Trigger: No; DatasheetVersion: SCHS152D; PackageReference: J0024A; Operating Temperature Range(C): -55 to 125; ComponentLink1Description: Manufacturer URL; ComponentLink1URL: http://www.ti.com/; ComponentLink2Description: Datasheet; ComponentLink2URL: http://www.ti.com/lit/ds/symlink/cd54hct154.pdf; ComponentLink3Description: Package Specification; ComponentLink3URL: http://www.ti.com/lit/ml/mcer002d/mcer002d.pdf
footprint J0024A (DIP, 24-Leads, Body 32.15x14.85mm, Pitch 2.54mm)
pins: 1 ~{Y0} (out), 2 ~{Y1} (out), 3 ~{Y2} (out), 4 ~{Y3} (out), 5 ~{Y4} (out), 6 ~{Y5} (out), 7 ~{Y6} (out), 8 ~{Y7} (out), 9 ~{Y8} (out), 10 ~{Y9} (out), 11 ~{Y10} (out), 12 GND (power), 13 ~{Y11} (out), 14 ~{Y12} (out), 15 ~{Y13} (out), 16 ~{Y14} (out), 17 ~{Y15} (out), 18 ~{E1} (in), 19 ~{E2} (in), 20 A3 (in), 21 A2 (in), 22 A1 (in), 23 A0 (in), 24 VCC (power)

## CD54HCT157F3A
designator U?
High Speed CMOS Logic Quad 2-Input Multiplexers, J0016A, TUBE; Generic Part Number: CD54HCT157; Manufacturer: Texas Instruments; PartNumber: CD54HCT157F3A; Rating: Military; Technology Family: HCT; Schmitt Trigger: No; DatasheetVersion: SCHS153C; PackageReference: J0016A; Operating Temperature Range(C): -55 to 125; ComponentLink1Description: Manufacturer URL; ComponentLink1URL: http://www.ti.com/; ComponentLink2Description: Datasheet; ComponentLink2URL: http://www.ti.com/lit/ds/symlink/cd54hct157.pdf; ComponentLink3Description: Package Specification; ComponentLink3URL: http://www.ti.com/lit/ml/mcer002d/mcer002d.pdf
footprint J0016A (DIP, 16-Leads, Body 21.35x7.2mm, Pitch 2.54mm)
pins: 1 S (in), 2 1I0 (in), 3 1I1 (in), 4 1Y (out), 5 2I0 (in), 6 2I1 (in), 7 2Y (out), 8 GND (power), 9 3Y (out), 10 3I1 (in), 11 3I0 (in), 12 4Y (out), 13 4I1 (in), 14 4I0 (in), 15 ~{E} (in), 16 VCC (power)

## CD54HCT158F3A
designator U?
High Speed CMOS Logic Quad 2-Input Multiplexers, J0016A, TUBE; Generic Part Number: CD54HCT158; Manufacturer: Texas Instruments; PartNumber: CD54HCT158F3A; Rating: Military; Technology Family: HCT; Schmitt Trigger: No; DatasheetVersion: SCHS153C; PackageReference: J0016A; Operating Temperature Range(C): -55 to 125; ComponentLink1Description: Manufacturer URL; ComponentLink1URL: http://www.ti.com/; ComponentLink2Description: Datasheet; ComponentLink2URL: http://www.ti.com/lit/ds/symlink/cd54hct158.pdf; ComponentLink3Description: Package Specification; ComponentLink3URL: http://www.ti.com/lit/ml/mcer002d/mcer002d.pdf
footprint J0016A (DIP, 16-Leads, Body 21.35x7.2mm, Pitch 2.54mm)
pins: 1 S (in), 2 1I0 (in), 3 1I1 (in), 4 ~{1Y} (out), 5 2I0 (in), 6 2I1 (in), 7 ~{2Y} (out), 8 GND (power), 9 ~{3Y} (out), 10 3I1 (in), 11 3I0 (in), 12 ~{4Y} (out), 13 4I1 (in), 14 4I0 (in), 15 ~{E} (in), 16 VCC (power)

## CD54HCT163F
designator U?
High Speed CMOS Logic 4-Bit Binary Counter with Synchronous Reset, J0016A, TUBE; Generic Part Number: CD54HCT163; Manufacturer: Texas Instruments; PartNumber: CD54HCT163F; VCC(Min)(V): 4.5; VCC(Max)(V): 5.5; Inputs: 4; ICC @ Nom Voltage(Max)(mA): 0.08; F @ Nom Voltage(Max)(Mhz): 25; Rating: Military; Technology Family: HCT; Output Drive (IOL/IOH)(Max)(mA): 4/-4; tpd @ Nom Voltage(Max)(ns): 49; DatasheetVersion: SCHS154D; PackageReference: J0016A; Function: Counter; Bits(#): 4; Operating Temperature Range(C): -55 to 125; Type: Binary; ComponentLink1Description: Manufacturer URL; ComponentLink1URL: http://www.ti.com/; ComponentLink2Description: Datasheet; ComponentLink2URL: http://www.ti.com/lit/ds/symlink/cd54hct163.pdf; ComponentLink3Description: Package Specification; ComponentLink3URL: http://www.ti.com/lit/ml/mcer002d/mcer002d.pdf
footprint J0016A (DIP, 16-Leads, Body 21.35x7.2mm, Pitch 2.54mm)
pins: 1 ~{MR} (in), 2 CP (in), 3 P0 (in), 4 P1 (in), 5 P2 (in), 6 P3 (in), 7 PE (in), 8 GND (power), 9 ~{SPE} (in), 10 TE (in), 11 Q3 (out), 12 Q2 (out), 13 Q1 (out), 14 Q0 (out), 15 TC (out), 16 VCC (power)

## CD54HCT163F3A
designator U?
High Speed CMOS Logic 4-Bit Binary Counter with Synchronous Reset, J0016A, TUBE; Generic Part Number: CD54HCT163; Manufacturer: Texas Instruments; PartNumber: CD54HCT163F3A; VCC(Min)(V): 4.5; VCC(Max)(V): 5.5; Inputs: 4; ICC @ Nom Voltage(Max)(mA): 0.08; F @ Nom Voltage(Max)(Mhz): 25; Rating: Military; Technology Family: HCT; Output Drive (IOL/IOH)(Max)(mA): 4/-4; tpd @ Nom Voltage(Max)(ns): 49; DatasheetVersion: SCHS154D; PackageReference: J0016A; Function: Counter; Bits(#): 4; Operating Temperature Range(C): -55 to 125; Type: Binary; ComponentLink1Description: Manufacturer URL; ComponentLink1URL: http://www.ti.com/; ComponentLink2Description: Datasheet; ComponentLink2URL: http://www.ti.com/lit/ds/symlink/cd54hct163.pdf; ComponentLink3Description: Package Specification; ComponentLink3URL: http://www.ti.com/lit/ml/mcer002d/mcer002d.pdf
footprint J0016A (DIP, 16-Leads, Body 21.35x7.2mm, Pitch 2.54mm)
pins: 1 ~{MR} (in), 2 CP (in), 3 P0 (in), 4 P1 (in), 5 P2 (in), 6 P3 (in), 7 PE (in), 8 GND (power), 9 ~{SPE} (in), 10 TE (in), 11 Q3 (out), 12 Q2 (out), 13 Q1 (out), 14 Q0 (out), 15 TC (out), 16 VCC (power)

## CD54HCT191F3A
designator U?
High Speed CMOS Logic Presettable Synchronous 4-Bit Binary Up/Down Counter, J0016A, TUBE; Generic Part Number: CD54HCT191; Manufacturer: Texas Instruments; PartNumber: CD54HCT191F3A; VCC(Min)(V): 4.5; VCC(Max)(V): 5.5; Inputs: 4; ICC @ Nom Voltage(Max)(mA): 0.08; F @ Nom Voltage(Max)(Mhz): 25; Rating: Military; Technology Family: HCT; Output Drive (IOL/IOH)(Max)(mA): 4/-4; tpd @ Nom Voltage(Max)(ns): 48; DatasheetVersion: SCHS275E; PackageReference: J0016A; Function: Counter; Bits(#): 4; Operating Temperature Range(C): -55 to 125; Type: Binary; ComponentLink1Description: Manufacturer URL; ComponentLink1URL: http://www.ti.com/; ComponentLink2Description: Datasheet; ComponentLink2URL: http://www.ti.com/lit/ds/symlink/cd54hct191.pdf; ComponentLink3Description: Package Specification; ComponentLink3URL: http://www.ti.com/lit/ml/mcer002d/mcer002d.pdf
footprint J0016A (DIP, 16-Leads, Body 21.35x7.2mm, Pitch 2.54mm)
pins: 1 B (in), 2 QB (out), 3 QA (out), 4 ~{CTEN} (in), 5 D/~{U} (in), 6 QC (out), 7 QD (out), 8 GND (power), 9 D (in), 10 C (in), 11 ~{LOAD} (in), 12 MAX/MIN (out), 13 ~{RCO} (out), 14 CLK (in), 15 A (in), 16 VCC (power)

## CD54HCT193F3A
designator U?
High Speed CMOS Logic Presettable Synchronous 4-Bit Binary Up/Down Counters, J0016A, TUBE; Generic Part Number: CD54HCT193; Manufacturer: Texas Instruments; PartNumber: CD54HCT193F3A; VCC(Min)(V): 4.5; VCC(Max)(V): 5.5; Inputs: 1; ICC @ Nom Voltage(Max)(mA): 0.08; Bits(#): 4; F @ Nom Voltage(Max)(Mhz): 25; Rating: Military; Technology Family: HCT; Output Drive (IOL/IOH)(Max)(mA): 4/-4; tpd @ Nom Voltage(Max)(ns): 50; DatasheetVersion: SCHS163F; PackageReference: J0016A; Function: Counter; Operating Temperature Range(C): -55 to 125; Type: Binary; ComponentLink1Description: Manufacturer URL; ComponentLink1URL: http://www.ti.com/; ComponentLink2Description: Datasheet; ComponentLink2URL: http://www.ti.com/lit/ds/symlink/cd54hct193.pdf; ComponentLink3Description: Package Specification; ComponentLink3URL: http://www.ti.com/lit/ml/mcer002d/mcer002d.pdf
footprint J0016A (DIP, 16-Leads, Body 21.35x7.2mm, Pitch 2.54mm)
pins: 1 P1 (in), 2 Q1 (out), 3 Q0 (out), 4 CPD (in), 5 CPU (in), 6 Q2 (out), 7 Q3 (out), 8 GND (power), 9 P3 (in), 10 P2 (in), 11 ~{PL} (in), 12 TCU (out), 13 TCD (out), 14 MR (in), 15 P0 (in), 16 VCC (power)

## CD54HCT238F3A
designator U?
High Speed CMOS Logic 3-to-8 Line Decoder Demultiplexer Inverting and Non-Inverting, J0016A, TUBE; Generic Part Number: CD54HCT238; Manufacturer: Texas Instruments; PartNumber: CD54HCT238F3A; Rating: Military; Technology Family: HCT; Schmitt Trigger: No; DatasheetVersion: SCHS147I; PackageReference: J0016A; Operating Temperature Range(C): -55 to 125; ComponentLink1Description: Manufacturer URL; ComponentLink1URL: http://www.ti.com/; ComponentLink2Description: Datasheet; ComponentLink2URL: http://www.ti.com/lit/ds/symlink/cd54hct238.pdf; ComponentLink3Description: Package Specification; ComponentLink3URL: http://www.ti.com/lit/ml/mcer002d/mcer002d.pdf
footprint J0016A (DIP, 16-Leads, Body 21.35x7.2mm, Pitch 2.54mm)
pins: 1 A0 (in), 2 A1 (in), 3 A2 (in), 4 ~{E1} (in), 5 ~{E2} (in), 6 E3 (in), 7 Y7 (out), 8 GND (power), 9 Y6 (out), 10 Y5 (out), 11 Y4 (out), 12 Y3 (out), 13 Y2 (out), 14 Y1 (out), 15 Y0 (out), 16 VCC (power)

## CD54HCT251F3A
designator U?
High Speed CMOS Logic 8-Input Multiplexer with 3-State Outputs, J0016A, TUBE; Generic Part Number: CD54HCT251; Manufacturer: Texas Instruments; PartNumber: CD54HCT251F3A; Rating: Military; Technology Family: HCT; Schmitt Trigger: No; DatasheetVersion: SCHS169C; PackageReference: J0016A; Operating Temperature Range(C): -55 to 125; ComponentLink1Description: Manufacturer URL; ComponentLink1URL: http://www.ti.com/; ComponentLink2Description: Datasheet; ComponentLink2URL: http://www.ti.com/lit/ds/symlink/cd54hct251.pdf; ComponentLink3Description: Package Specification; ComponentLink3URL: http://www.ti.com/lit/ml/mcer002d/mcer002d.pdf
footprint J0016A (DIP, 16-Leads, Body 21.35x7.2mm, Pitch 2.54mm)
pins: 1 I3 (in), 2 I2 (in), 3 I1 (in), 4 I0 (in), 5 Y (hiz), 6 ~{Y} (hiz), 7 ~{OE} (in), 8 GND (power), 9 S2 (in), 10 S1 (in), 11 S0 (in), 12 I7 (in), 13 I6 (in), 14 I5 (in), 15 I4 (in), 16 VCC (power)

## CD54HCT257F3A
designator U?
High Speed CMOS Logic Non-Inverting Quad 2-Input Multiplexer with 3-State Outputs, J0016A, TUBE; Generic Part Number: CD54HCT257; Manufacturer: Texas Instruments; PartNumber: CD54HCT257F3A; Rating: Military; Technology Family: HCT; Schmitt Trigger: No; DatasheetVersion: SCHS171D; PackageReference: J0016A; Operating Temperature Range(C): -55 to 125; ComponentLink1Description: Manufacturer URL; ComponentLink1URL: http://www.ti.com/; ComponentLink2Description: Datasheet; ComponentLink2URL: http://www.ti.com/lit/ds/symlink/cd54hct257.pdf; ComponentLink3Description: Package Specification; ComponentLink3URL: http://www.ti.com/lit/ml/mcer002d/mcer002d.pdf
footprint J0016A (DIP, 16-Leads, Body 21.35x7.2mm, Pitch 2.54mm)
pins: 1 S (in), 2 1I0 (in), 3 1I1 (in), 4 1Y (hiz), 5 2I0 (in), 6 2I1 (in), 7 2Y (hiz), 8 GND (power), 9 3Y (hiz), 10 3I1 (in), 11 3I0 (in), 12 4Y (hiz), 13 4I1 (in), 14 4I0 (in), 15 ~{OE} (in), 16 VCC (power)

## CD54HCT258F3A
designator U?
High Speed CMOS Logic Inverting Quad 2-Input Multiplexer with 3-State Outputs, J0016A, TUBE; Generic Part Number: CD54HCT258; Manufacturer: Texas Instruments; PartNumber: CD54HCT258F3A; Rating: Military; Technology Family: HCT; Schmitt Trigger: No; DatasheetVersion: SCHS276A; PackageReference: J0016A; Operating Temperature Range(C): -55 to 125; ComponentLink1Description: Manufacturer URL; ComponentLink1URL: http://www.ti.com/; ComponentLink2Description: Datasheet; ComponentLink2URL: http://www.ti.com/lit/ds/symlink/cd54hct258.pdf; ComponentLink3Description: Package Specification; ComponentLink3URL: http://www.ti.com/lit/ml/mcer002d/mcer002d.pdf
footprint J0016A (DIP, 16-Leads, Body 21.35x7.2mm, Pitch 2.54mm)
pins: 1 ~{A}/B (in), 2 1A (in), 3 1B (in), 4 1Y (hiz), 5 2A (in), 6 2B (in), 7 2Y (hiz), 8 GND (power), 9 3Y (hiz), 10 3B (in), 11 3A (in), 12 4Y (hiz), 13 4B (in), 14 4A (in), 15 ~{G} (in), 16 VCC (power)

## CD54HCT280F3A
designator U?
High Speed CMOS Logic 9-Bit Odd/Even Parity Generator/Checker, J0014A, TUBE; Generic Part Number: CD54HCT280; Manufacturer: Texas Instruments; PartNumber: CD54HCT280F3A; VCC(Min)(V): 4.5; VCC(Max)(V): 5.5; Inputs: 9; Function: Counter; ICC @ Nom Voltage(Max)(mA): 0.08; Bits(#): 2; F @ Nom Voltage(Max)(Mhz): 25; Rating: Military; Technology Family: HCT; Output Drive (IOL/IOH)(Max)(mA): 4/-4; tpd @ Nom Voltage(Max)(ns): 56; DatasheetVersion: SCHS175D; PackageReference: J0014A; Operating Temperature Range(C): -55 to 125; Type: Other; ComponentLink1Description: Manufacturer URL; ComponentLink1URL: http://www.ti.com/; ComponentLink2Description: Datasheet; ComponentLink2URL: http://www.ti.com/lit/ds/symlink/cd54hct280.pdf; ComponentLink3Description: Package Specification; ComponentLink3URL: http://www.ti.com/lit/ml/mcer002d/mcer002d.pdf
footprint J0014A (DIP, 14-Leads, Body 19.95x7.2mm, Pitch 2.54mm)
pins: 1 I6 (in), 2 I7 (in), 3 NC, 4 I8 (in), 5 ΣE (out), 6 ΣO (out), 7 GND (power), 8 I0 (in), 9 I1 (in), 10 I2 (in), 11 I3 (in), 12 I4 (in), 13 I5 (in), 14 VCC (power)

## CD54HCT283F3A
designator U?
High Speed CMOS Logic 4-Bit Binary Full Adder with Fast Carry, J0016A, TUBE; Generic Part Number: CD54HCT283; Manufacturer: Texas Instruments; PartNumber: CD54HCT283F3A; VCC(Min)(V): 4.5; VCC(Max)(V): 5.5; Inputs: 9; Function: Counter; ICC @ Nom Voltage(Max)(mA): 0.08; Bits(#): 4; F @ Nom Voltage(Max)(Mhz): 25; Rating: Military; Technology Family: HCT; Output Drive (IOL/IOH)(Max)(mA): 4/-4; tpd @ Nom Voltage(Max)(ns): 60; DatasheetVersion: SCHS176D; PackageReference: J0016A; Operating Temperature Range(C): -55 to 125; Type: Binary; ComponentLink1Description: Manufacturer URL; ComponentLink1URL: http://www.ti.com/; ComponentLink2Description: Datasheet; ComponentLink2URL: http://www.ti.com/lit/ds/symlink/cd54hct283.pdf; ComponentLink3Description: Package Specification; ComponentLink3URL: http://www.ti.com/lit/ml/mcer002d/mcer002d.pdf
footprint J0016A (DIP, 16-Leads, Body 21.35x7.2mm, Pitch 2.54mm)
pins: 1 S1 (out), 2 B1 (in), 3 A1 (in), 4 S0 (out), 5 A0 (in), 6 B0 (in), 7 CIN (in), 8 GND (power), 9 COUT (out), 10 S3 (out), 11 B3 (in), 12 A3 (in), 13 S2 (out), 14 A2 (in), 15 B2 (in), 16 VCC (power)

## CD54HCT390F3A
designator U?
High Speed CMOS Logic Dual Decade Ripple Counter, J0016A, TUBE; Generic Part Number: CD54HCT390; Manufacturer: Texas Instruments; PartNumber: CD54HCT390F3A; VCC(Min)(V): 4.5; VCC(Max)(V): 5.5; Inputs: 1; ICC @ Nom Voltage(Max)(mA): 0.08; Bits(#): 4; F @ Nom Voltage(Max)(Mhz): 25; Rating: Military; Technology Family: HCT; Output Drive (IOL/IOH)(Max)(mA): 4/-4; tpd @ Nom Voltage(Max)(ns): 69; DatasheetVersion: SCHS185C; PackageReference: J0016A; Function: Counter; Operating Temperature Range(C): -55 to 125; Type: Decade; ComponentLink1Description: Manufacturer URL; ComponentLink1URL: http://www.ti.com/; ComponentLink2Description: Datasheet; ComponentLink2URL: http://www.ti.com/lit/ds/symlink/cd54hct390.pdf; ComponentLink3Description: Package Specification; ComponentLink3URL: http://www.ti.com/lit/ml/mcer002d/mcer002d.pdf
footprint J0016A (DIP, 16-Leads, Body 21.35x7.2mm, Pitch 2.54mm)
part A pins: 1 1~{CP0} (in), 2 1MR (in), 3 1Q0 (out), 4 1~{CP1} (in), 5 1Q1 (out), 6 1Q2 (out), 7 1Q3 (out)
part B pins: 9 2Q3 (out), 10 2Q2 (out), 11 2Q1 (out), 12 2~{CP1} (in), 13 2Q0 (out), 14 2MR (in), 15 2~{CP0} (in)
part C pins: 8 GND (power), 16 VCC (power)

## CD54HCT393F
designator U?
High Speed CMOS Logic Dual 4-Stage Binary Counter, J0014A, TUBE; Generic Part Number: CD54HCT393; Manufacturer: Texas Instruments; PartNumber: CD54HCT393F; VCC(Min)(V): 4.5; VCC(Max)(V): 5.5; Inputs: 1; ICC @ Nom Voltage(Max)(mA): 0.08; Bits(#): 4; F @ Nom Voltage(Max)(Mhz): 25; Rating: Military; Technology Family: HCT; Output Drive (IOL/IOH)(Max)(mA): 4/-4; tpd @ Nom Voltage(Max)(ns): 78; DatasheetVersion: SCHS186E; PackageReference: J0014A; Function: Counter; Operating Temperature Range(C): -55 to 125; Type: Binary; ComponentLink1Description: Manufacturer URL; ComponentLink1URL: http://www.ti.com/; ComponentLink2Description: Datasheet; ComponentLink2URL: http://www.ti.com/lit/ds/symlink/cd54hct393.pdf; ComponentLink3Description: Package Specification; ComponentLink3URL: http://www.ti.com/lit/ml/mcer002d/mcer002d.pdf
footprint J0014A (DIP, 14-Leads, Body 19.95x7.2mm, Pitch 2.54mm)
part A pins: 1 1~{CP} (in), 2 1MR (in), 3 1Q0 (out), 4 1Q1 (out), 5 1Q2 (out), 6 1Q3 (out)
part B pins: 8 2Q3 (out), 9 2Q2 (out), 10 2Q1 (out), 11 2Q0 (out), 12 2MR (in), 13 2~{CP} (in)
part C pins: 7 GND (power), 14 VCC (power)

## CD54HCT393F3A
designator U?
High Speed CMOS Logic Dual 4-Stage Binary Counter, J0014A, TUBE; Generic Part Number: CD54HCT393; Manufacturer: Texas Instruments; PartNumber: CD54HCT393F3A; VCC(Min)(V): 4.5; VCC(Max)(V): 5.5; Inputs: 1; ICC @ Nom Voltage(Max)(mA): 0.08; Bits(#): 4; F @ Nom Voltage(Max)(Mhz): 25; Rating: Military; Technology Family: HCT; Output Drive (IOL/IOH)(Max)(mA): 4/-4; tpd @ Nom Voltage(Max)(ns): 78; DatasheetVersion: SCHS186E; PackageReference: J0014A; Function: Counter; Operating Temperature Range(C): -55 to 125; Type: Binary; ComponentLink1Description: Manufacturer URL; ComponentLink1URL: http://www.ti.com/; ComponentLink2Description: Datasheet; ComponentLink2URL: http://www.ti.com/lit/ds/symlink/cd54hct393.pdf; ComponentLink3Description: Package Specification; ComponentLink3URL: http://www.ti.com/lit/ml/mcer002d/mcer002d.pdf
footprint J0014A (DIP, 14-Leads, Body 19.95x7.2mm, Pitch 2.54mm)
part A pins: 1 1~{CP} (in), 2 1MR (in), 3 1Q0 (out), 4 1Q1 (out), 5 1Q2 (out), 6 1Q3 (out)
part B pins: 8 2Q3 (out), 9 2Q2 (out), 10 2Q1 (out), 11 2Q0 (out), 12 2MR (in), 13 2~{CP} (in)
part C pins: 7 GND (power), 14 VCC (power)

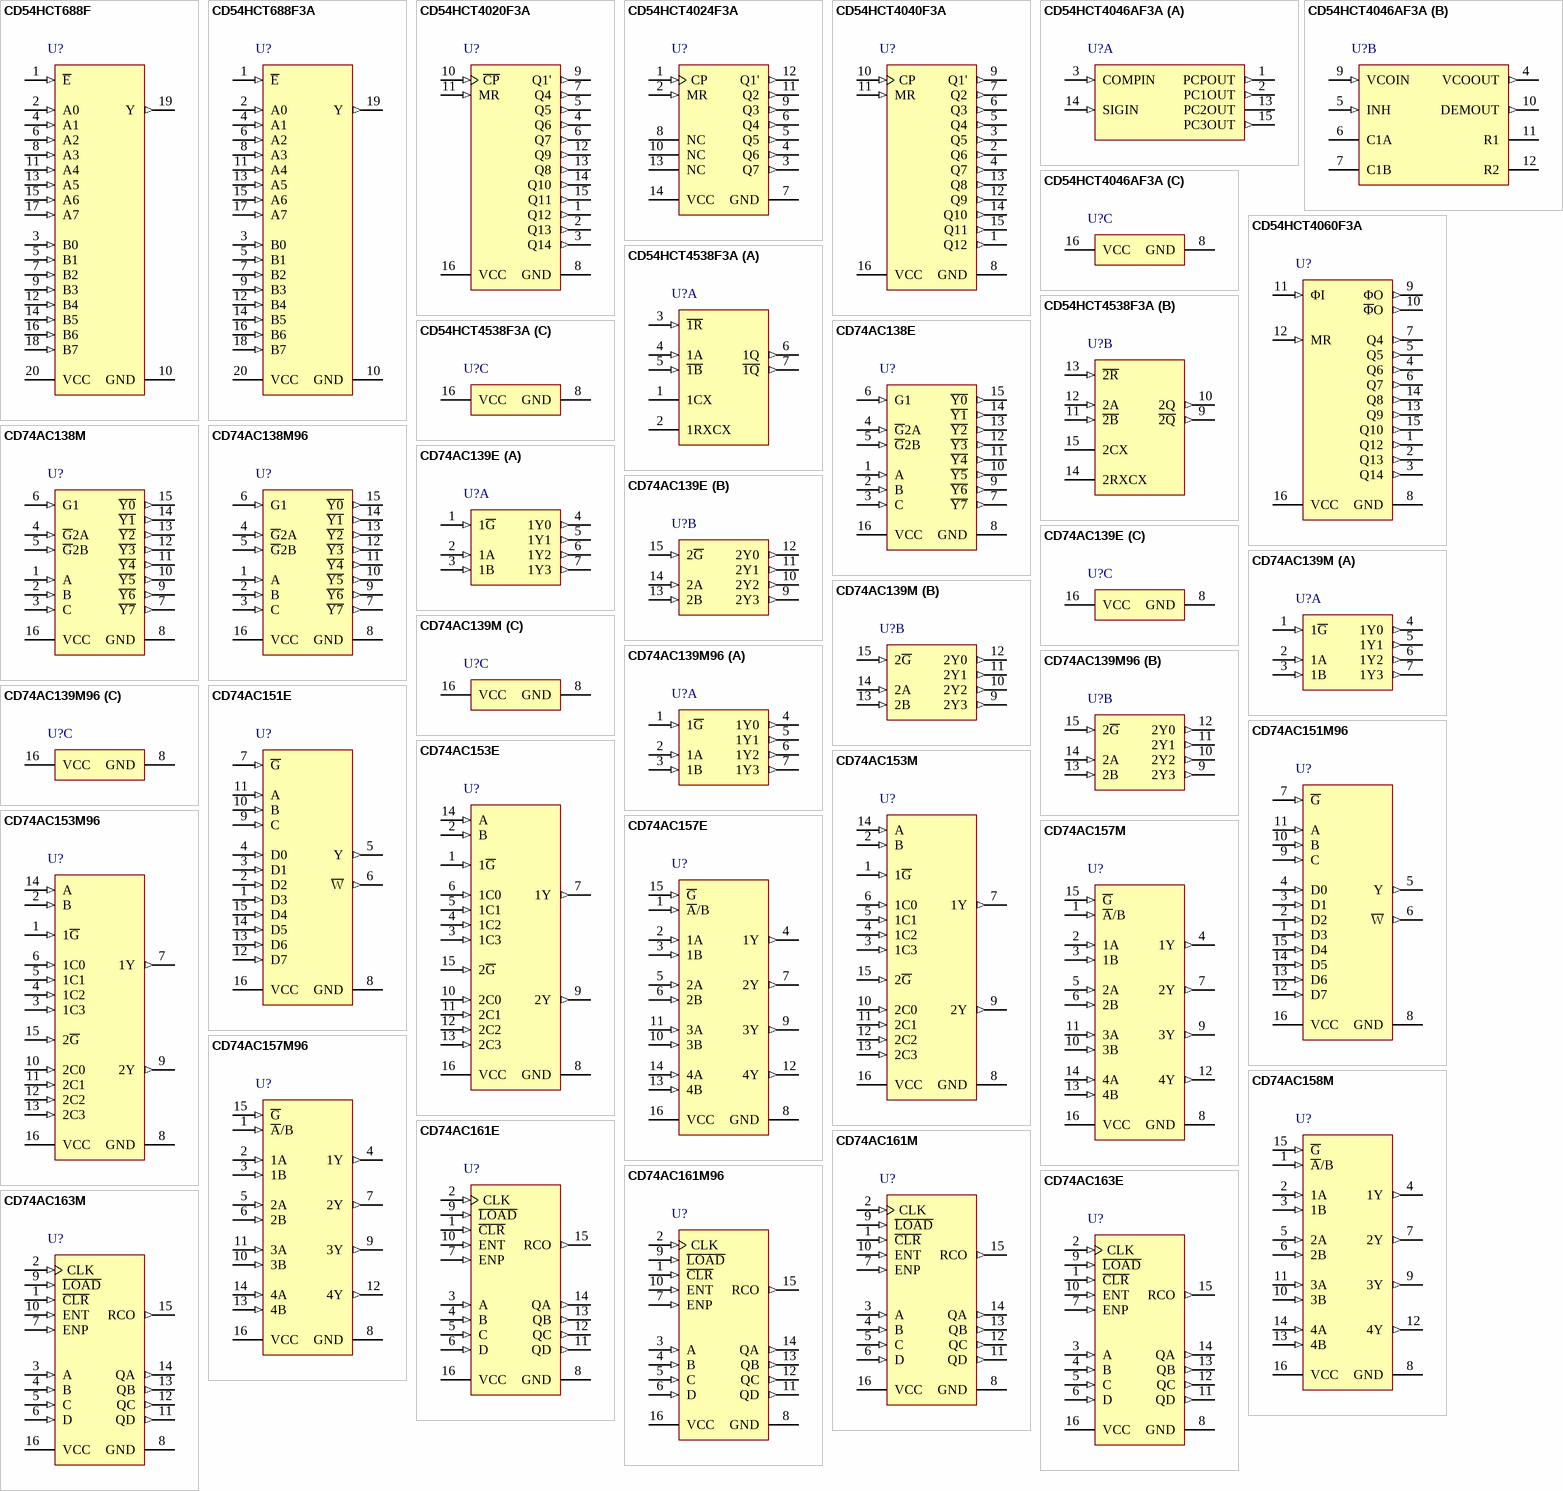
[diagram p6: symbols CD54HCT688F to CD74AC163M]

## CD54HCT688F
designator U?
8-Bit Identity/Magnitude Comparators (P=Q) with Enable, J0020A, TUBE; Generic Part Number: CD54HCT688; Manufacturer: Texas Instruments; PartNumber: CD54HCT688F; VCC(Min)(V): 4.5; VCC(Max)(V): 5.5; Output Type: CMOS; ICC @ Nom Voltage(Max)(mA): 0.08; Input Type: TTL; Bits(#): 8; Rating: Military; Technology Family: HCT; Output Drive (IOL/IOH)(Max)(mA): 4/-4; tpd @ Nom Voltage(Max)(ns): 42; DatasheetVersion: SCHS196C; PackageReference: J0020A; Operating Temperature Range(C): -55 to 125; ComponentLink1Description: Manufacturer URL; ComponentLink1URL: http://www.ti.com/; ComponentLink2Description: Datasheet; ComponentLink2URL: http://www.ti.com/lit/ds/symlink/cd54hct688.pdf
footprint J0020A (DIP, 20-Leads, Body 26.9x7.2mm, Pitch 2.54mm)
pins: 1 ~{E} (in), 2 A0 (in), 3 B0 (in), 4 A1 (in), 5 B1 (in), 6 A2 (in), 7 B2 (in), 8 A3 (in), 9 B3 (in), 10 GND (power), 11 A4 (in), 12 B4 (in), 13 A5 (in), 14 B5 (in), 15 A6 (in), 16 B6 (in), 17 A7 (in), 18 B7 (in), 19 Y (out), 20 VCC (power)

## CD54HCT688F3A
designator U?
8-Bit Identity/Magnitude Comparators (P=Q) with Enable, J0020A, TUBE; Generic Part Number: CD54HCT688; Manufacturer: Texas Instruments; PartNumber: CD54HCT688F3A; VCC(Min)(V): 4.5; VCC(Max)(V): 5.5; Output Type: CMOS; ICC @ Nom Voltage(Max)(mA): 0.08; Input Type: TTL; Bits(#): 8; Rating: Military; Technology Family: HCT; Output Drive (IOL/IOH)(Max)(mA): 4/-4; tpd @ Nom Voltage(Max)(ns): 42; DatasheetVersion: SCHS196C; PackageReference: J0020A; Operating Temperature Range(C): -55 to 125; ComponentLink1Description: Manufacturer URL; ComponentLink1URL: http://www.ti.com/; ComponentLink2Description: Datasheet; ComponentLink2URL: http://www.ti.com/lit/ds/symlink/cd54hct688.pdf
footprint J0020A (DIP, 20-Leads, Body 26.9x7.2mm, Pitch 2.54mm)
pins: 1 ~{E} (in), 2 A0 (in), 3 B0 (in), 4 A1 (in), 5 B1 (in), 6 A2 (in), 7 B2 (in), 8 A3 (in), 9 B3 (in), 10 GND (power), 11 A4 (in), 12 B4 (in), 13 A5 (in), 14 B5 (in), 15 A6 (in), 16 B6 (in), 17 A7 (in), 18 B7 (in), 19 Y (out), 20 VCC (power)